# Altium schematic symbol library General.SchLib: 173 symbols (part 4 of 4)
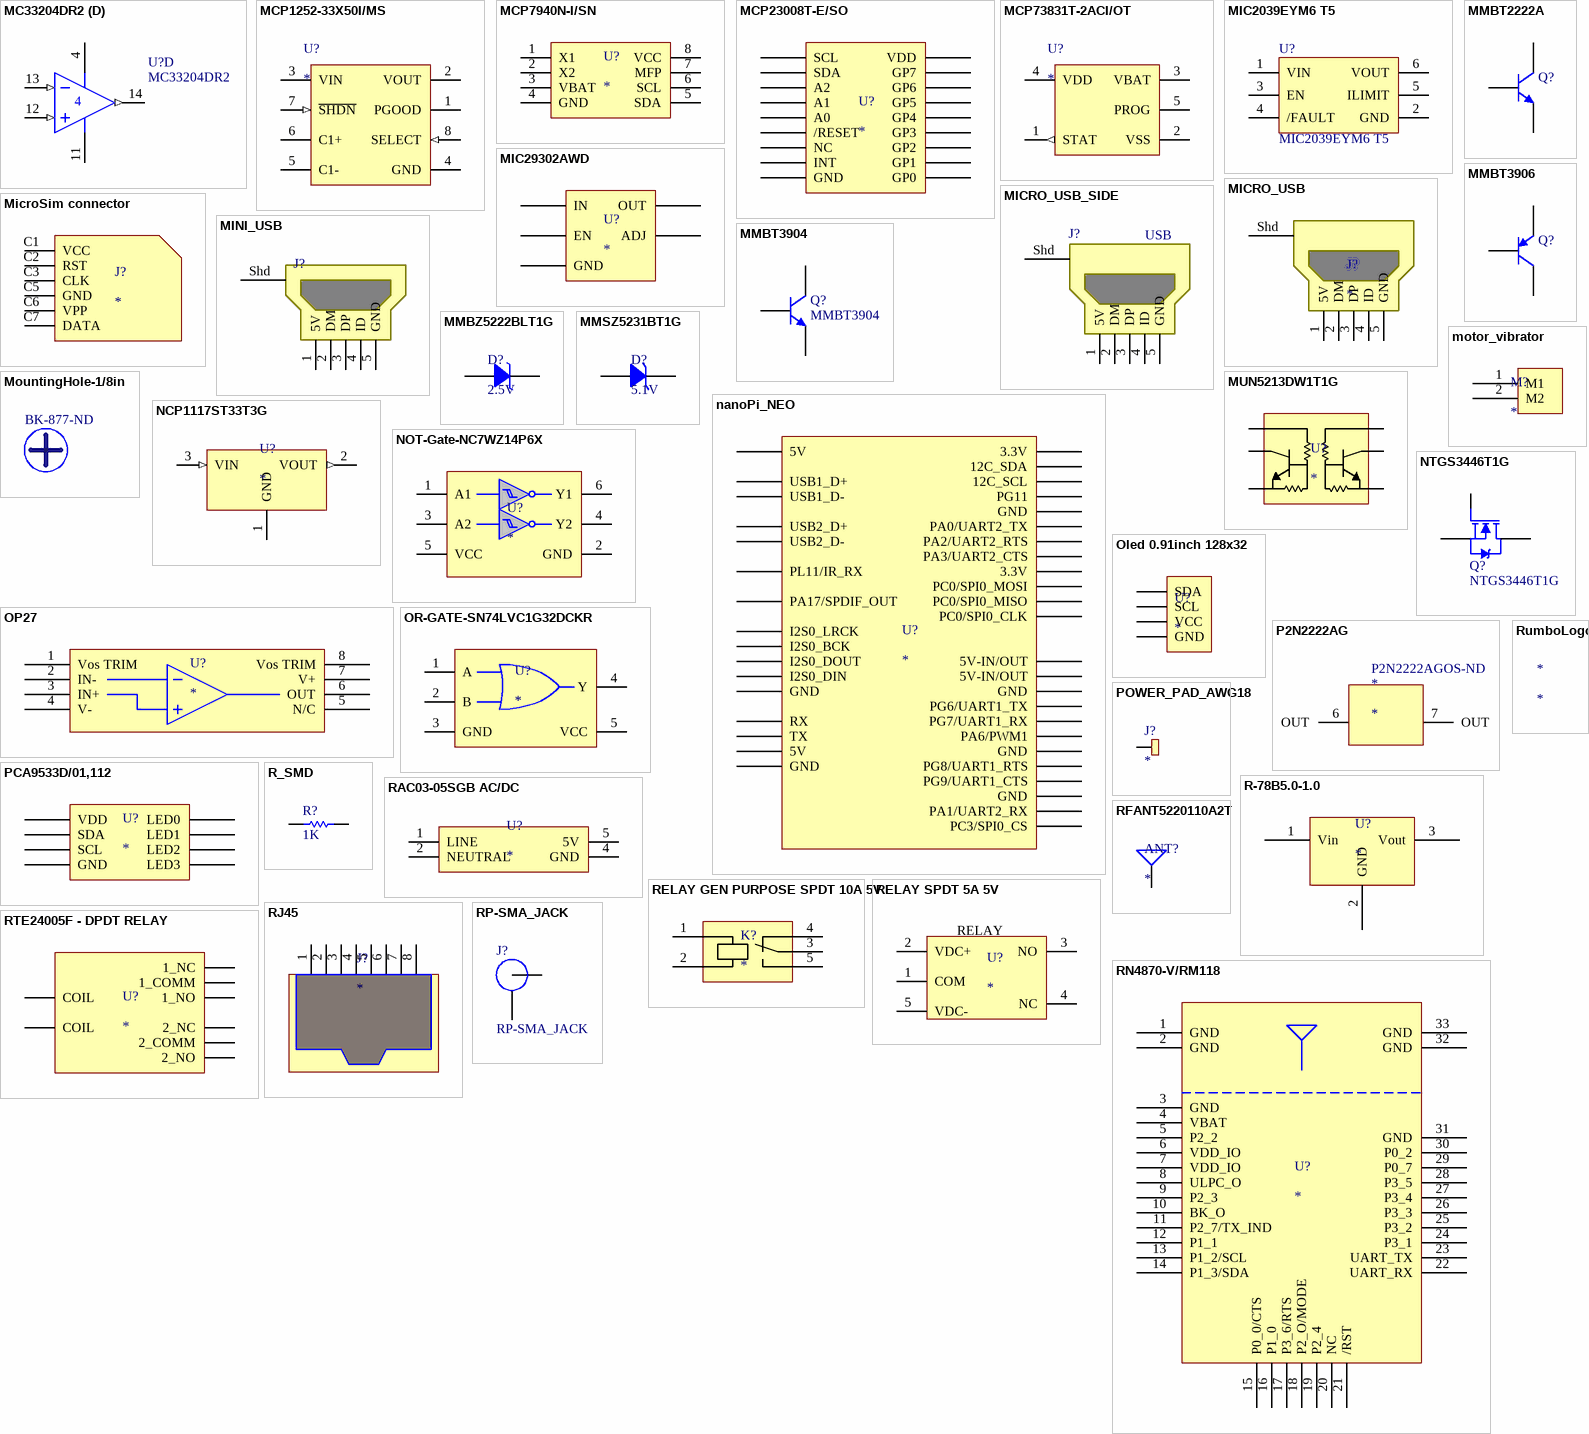
[diagram p7: symbols MC33204DR2 to RumboLogo]

## RFANT5220110A2T
designator ANT?
2.4GHZ BT/WLAN CHIP ANT; Manufacturer: Walsin Technology Corporation; Manufacturer Part Number: RFANT5220110A2T; Frequency Group: UHF (2 GHz ~ 3 GHz); Frequency Range: 2.4GHz ~ 2.5GHz; Number of Bands: 1; VSWR: 2; Gain: 2dBi; Supplier 1: Digi-Key; RoHS: RoHS Compliant; Category: RF/IF and RFID; Stock 1: 1590; Pricing 1: 1=0.71, 10=0.601, 25=0.5256, 100=0.4505, 250=0.39048, 500=0.3304, 1000=0.25531 (USD); Packaging: Cut Tape (CT); Frequency (Center/Band): 2.4GHz; Antenna Type: Chip; Return Loss: -; Power - Max: -; Features: -; Termination: Solder; Ingress Protection: -; Mounting Type: Surface Mount; Height (Max): 0.045" (1.15mm); Applications: Bluetooth, WLAN; ComponentLink1URL: http://www.passivecomponent.com/document/HF_Devices/RF_ProductCatalog_Feb08.pdf; ComponentLink1Description: http://www.passivecomponent.com/document/HF_Devices/RF_ProductCatalog_Feb08.pdf; Supplier Part Number 1: 1292-1001-1-ND
footprint BT_ANTENNA_N (Chip Capacitor, 2-Leads, Body 5.20x2.00mm, IPC Medium Density)
pins: 1 ANTENNA

## RJ45
designator J?
CONN MOD JACK R/A 8P8C SHIELDED; Manufacturer: TE Connectivity; Manufacturer Part Number: 5555153-1; Number of Positions/Contacts: 8p8c (RJ45, Ethernet); Number of Ports: 1; Ratings: Cat3; LED Color: Does Not Contain LED; Tab Direction: Down; Supplier 1: Digi-Key; RoHS: RoHS Compliant; Category: Connectors, Interconnects; Stock 1: 4543; Pricing 1: 1=1.82, 10=1.649, 50=1.481, 100=1.4136, 250=1.279, 500=1.17804, 1000=1.00974, 2500=0.94242, 5000=0.8953 (USD); Packaging: Tray; Connector Type: Jack; Number of Rows: 1; Mounting Type: Through Hole; Orientation: 90° Angle (Right); Termination: Solder; Shielding: Shielded; Features: Board Lock, Panel Stops; Ingress Protection: -; Contact Material: Phosphor Bronze; Contact Finish: Gold; Contact Finish Thickness: 50µin (1.27µm); Housing Material: Polybutylene Terephthalate (PBT), Polyester; Operating Temperature: -40°C ~ 85°C; ComponentLink1URL: http://www.te.com/commerce/DocumentDelivery/DDEController?Action=srchrtrv&DocNm=5555153&DocType=Customer+Drawing&DocLang=English; ComponentLink1Description: http://www.te.com/commerce/DocumentDelivery/DDEController?Action=srchrtrv&DocNm=5555153&DocType=Customer+Drawing&DocLang=English; Supplier Part Number 1: A31438-ND
footprint rj45
pins: 1, 2, 3, 4, 5, 6, 7, 8

## RN4870-V/RM118
designator U?
BLUETOOTH 4.2 BLE MODULE, SHIELD; Manufacturer: Microchip Technology; Manufacturer Part Number: RN4870-V/RM118; Protocol: Bluetooth v4.2; Modulation: GFSK; Frequency: 2.4GHz; Power - Output: 0dBm; Sensitivity: -90dBm; Serial Interfaces: UART; Antenna Type: Integrated, Chip; Voltage - Supply: 1.9 V ~ 3.6 V; Current - Receiving: 13mA; Supplier 1: Digi-Key; RoHS: RoHS Compliant; Category: RF/IF and RFID; Stock 1: 558; Pricing 1: 1=7.24, 25=6.5612, 100=6.353 (USD); Packaging: Tray; Part Status: Active; RF Family/Standard: Bluetooth; Data Rate: -; Memory Size: -; Current - Transmitting: 13mA; Mounting Type: Surface Mount; Operating Temperature: -20°C ~ 70°C; Package / Case: 33-SMD Module; ComponentLink1URL: http://www.microchip.com/mymicrochip/filehandler.aspx?ddocname=en586027; ComponentLink1Description: http://www.microchip.com/mymicrochip/filehandler.aspx?ddocname=en586027; Supplier Part Number 1: RN4870-V/RM118-ND
footprint RN4870
pins: 1 GND, 2 GND, 3 GND, 4 VBAT, 5 P2_2, 6 VDD_IO, 7 VDD_IO, 8 ULPC_O, 9 P2_3, 10 BK_O, 11 P2_7/TX_IND, 12 P1_1, 13 P1_2/SCL, 14 P1_3/SDA, 15 P0_0/CTS, 16 P1_0, 17 P3_6/RTS, 18 P2_O/MODE, 19 P2_4, 20 NC, 21 /RST, 22 UART_RX, 23 UART_TX, 24 P3_1, 25 P3_2, 26 P3_3, 27 P3_4, 28 P3_5, 29 P0_7, 30 P0_2, 31 GND, 32 GND, 33 GND

## RP-SMA_JACK
designator J?
CONN RP SMAN JACK R/A 50OHM PCB; Manufacturer: Linx Technologies Inc; Manufacturer Part Number: CONREVSMA002-G; Connector Style: RP-SMA; Connector Type: Jack, Male Pin; Contact Termination: Solder; Frequency - Max: 18GHz; Body Material: Brass; Body Finish: Gold; Center Contact Material: Beryllium Copper; Dielectric Material: Polytetrafluoroethylene (PTFE); Voltage Rating: 500V; Supplier 1: Digi-Key; RoHS: RoHS Compliant; Category: Connectors, Interconnects; Stock 1: 1428; Pricing 1: 1=3.26, 25=3.13, 100=2.6101, 500=2.3625 (USD); Packaging: Bulk; Shield Termination: Solder; Impedance: 50 Ohm; Mounting Type: Through Hole, Right Angle; Cable Group: -; Fastening Type: Threaded; Features: Board Guide; Housing Color: Gold; Ingress Protection: -; Center Contact Plating: Gold; Operating Temperature: -65°C ~ 165°C; ComponentLink1URL: http://www.linxtechnologies.com/resources/diagrams/conrevsma002-g.pdf; ComponentLink1Description: http://www.linxtechnologies.com/resources/diagrams/conrevsma002-g.pdf; Supplier Part Number 1: CONREVSMA002-G-ND
footprint RP-SMA
pins: 0 GND, 1 ANTENNA

## RTE24005F - DPDT RELAY
designator U?
RELAY GENERAL PURPOSE DPDT 8A 5V; Manufacturer: TE Connectivity Potter & Brumfield Relays; Manufacturer Part Number: RTE24005F; Coil Voltage: 5VDC; Contact Form: DPDT (2 Form C); Switching Voltage: 400VAC - Max; Coil Type: Non Latching; Turn On Voltage (Max): 3.5 VDC; Turn Off Voltage (Min): 0.5 VDC; Coil Power: 400 mW; Supplier 1: Digi-Key; RoHS: RoHS Compliant; Category: Relays; Stock 1: 3893; Pricing 1: 1=2.83, 10=2.666, 25=2.3984, 50=2.292, 100=2.1853, 250=2.03876 (USD); Packaging: Tube; Part Status: Active; Mounting Type: Through Hole; Features: Insulation - Class F, Sealed - Fully; Termination Style: PC Pin; Operating Temperature: -40°C ~ 85°C; Contact Material: Silver Nickel (AgNi); Relay Type: General Purpose; ComponentLink1URL: https://www.te.com/commerce/DocumentDelivery/DDEController?Action=srchrtrv&DocNm=RT2pb&DocType=DS&DocLang=English; ComponentLink1Description: https://www.te.com/commerce/DocumentDelivery/DDEController?Action=srchrtrv&DocNm=RT2pb&DocType=DS&DocLang=English; Supplier Part Number 1: PB295-ND
footprint DPDT Relay
pins: 11 1_COMM, 12 1_NC, 14 1_NO, 21 2_COMM, 22 2_NC, 24 2_NO, A1 COIL, A2 COIL

## RumboLogo
designator *
footprint rumbo_logo

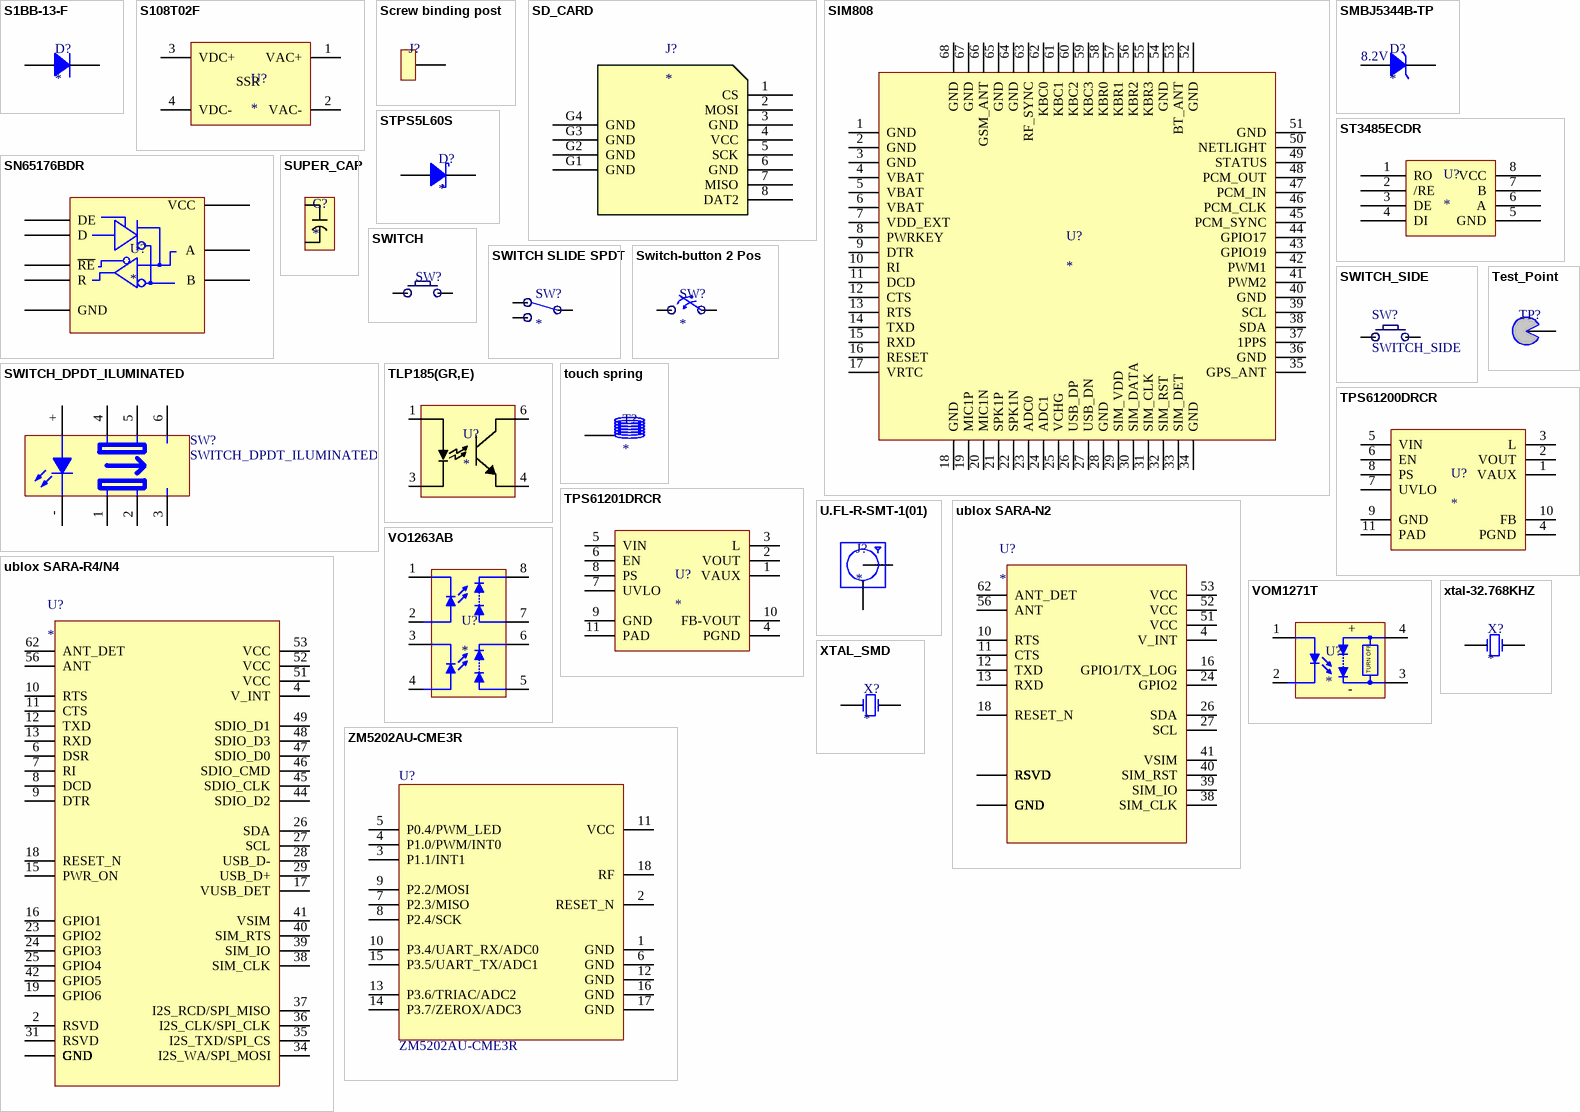
[diagram p4: symbols S1BB-13-F to ZM5202AU-CME3R]

## S1BB-13-F
designator D?
DIODE GEN PURPOSE 100V 1A SMB; Manufacturer: Diodes Incorporated; Manufacturer Part Number: S1BB-13-F; Diode Type: Standard; Voltage - Forward (Vf) (Max) @ If: 1.1V @ 1A; Speed: Standard Recovery >500ns, > 200mA (Io); Reverse Recovery Time (trr): 3µs; Current - Reverse Leakage @ Vr: 5µA @ 100V; Capacitance @ Vr, F: 10pF @ 4V, 1MHz; Supplier 1: Digi-Key; RoHS: RoHS Compliant; Category: Discrete Semiconductor Products; Stock 1: 11988; Pricing 1: 1=0.43, 10=0.306, 25=0.2416, 100=0.1836, 250=0.13004, 500=0.10404, 1000=0.078 (USD); Packaging: Cut Tape (CT); Voltage - DC Reverse (Vr) (Max): 100V; Current - Average Rectified (Io): 1A; Mounting Type: Surface Mount; Package / Case: DO-214AA, SMB; Supplier Device Package: SMB; Operating Temperature - Junction: -65°C ~ 150°C; ComponentLink1URL: http://www.diodes.com/datasheets/ds16003.pdf; ComponentLink1Description: http://www.diodes.com/datasheets/ds16003.pdf; Supplier Part Number 1: S1BB-FDICT-ND
footprint SMB_L (Molded Diode, 2-Leads, Body 4,41x3,62mm, IPC High Density)
footprint SMB_M (Molded Diode, 2-Leads, Body 4,41x3,62mm, IPC Low Density)
footprint SMB_N (Molded Diode, 2-Leads, Body 4,41x3,62mm, IPC Medium Density)
pins: 1 A, 2 K

## S108T02F
designator U?
RELAY SSR 120VAC 8A ZC 4-SIP; Manufacturer: Sharp Microelectronics; Manufacturer Part Number: S108T02F; Circuit: SPST-NO (1 Form A); Output Type: AC, Zero Cross; Voltage - Input: 1.2VDC; Voltage - Load: 80 ~ 120 V; Supplier 1: Digi-Key; RoHS: RoHS Compliant; Category: Relays; Stock 1: 919; Pricing 1: 1=5.1, 10=4.08, 25=3.876, 100=3.366, 500=2.958, 750=2.7948, 1000=2.652, 2500=2.55, 5000=2.4888 (USD); Packaging: Tube; On-State Resistance: -; Load Current: 8A; Mounting Type: Through Hole; Termination Style: PC Pin; Package / Case: 4-SIP; Supplier Device Package: 4-SIP; Relay Type: Relay; ComponentLink1URL: http://www.sharpsma.com/webfm_send/315; ComponentLink1Description: http://www.sharpsma.com/webfm_send/315; Supplier Part Number 1: 425-2396-5-ND
footprint ZC_4-ZSIP
pins: 1 VAC+, 2 VAC-, 3 VDC+, 4 VDC-
text: SSR

## Screw binding post
designator J?  (value not drawn)
TERM BINDING POST M2.5 1 PIN PCB; Manufacturer: Keystone Electronics; Manufacturer Part Number: 8730; Screw Material: Steel; Screw Finish: Zinc; Supplier 1: Digi-Key; RoHS: RoHS Compliant; Category: Connectors, Interconnects; Stock 1: 25784; Pricing 1: 1=0.36, 10=0.324, 50=0.2358, 100=0.2265, 250=0.2034, 1000=0.1625, 2500=0.14792, 5000=0.13868 (USD); Part Status: Active; Terminal Type: Binding Post; Screw Size: M2.5; Termination: Solder; Mounting Type: Through Hole; Features: -; Contact Finish: Tin; Contact Material: Brass; Material - Insulation: -; ComponentLink1URL: http://www.keyelco.com/product-pdf.cfm?p=1570; ComponentLink1Description: http://www.keyelco.com/product-pdf.cfm?p=1570; Supplier Part Number 1: 36-8730-ND
footprint screw_binding_post
pins: 1

## SD_CARD
designator J?
CONN MEMORY CARD R/A 8POS SMD; Manufacturer: Molex Inc; Manufacturer Part Number: 0472192001; Number of Positions: 8; Connector Type: Connector and Ejector; Insertion, Removal Method: Hinged Lid; Card Type: Secure Digital - microSD™; Supplier 1: Digi-Key; RoHS: RoHS Compliant; Category: Connectors, Interconnects; Stock 1: 10625; Pricing 1: 1=1.11, 10=0.973, 25=0.916, 50=0.8776, 100=0.8395, 250=0.7632 (USD); Packaging: Cut Tape (CT); Ejector Side: -; Mounting Type: Surface Mount, Right Angle; Features: -; Height Above Board: 0.075" (1.90mm); Mounting Feature: Normal, Standard - Top; Contact Finish: Gold; Contact Finish Thickness: 20µin (0.51µm); ComponentLink1URL: http://www.molex.com/pdm_docs/sd/472192001_sd.pdf; ComponentLink1Description: http://www.molex.com/pdm_docs/sd/472192001_sd.pdf; Supplier Part Number 1: WM6698CT-ND
footprint MICRO_SD-SOCKET
pins: 1 CS, 2 MOSI, 3 GND, 4 VCC, 5 SCK, 6 GND, 7 MISO, 8 DAT2, G1 GND, G2 GND, G3 GND, G4 GND

## SIM808
designator U?
Module: GPS/GSM; GPRS; 2G; 1800MHz,900MHz; GPIO, Serial, USB; SMD; Manufacturer: SIMCOM; Manufacturer Part Number: SIM808; Unit: pcs; SuppliedAmount: 0; MinAmount: 1; Supply voltage: 3.4...4.4V DC; Module output power: 1 W (class 1 @ 1800/1900MHz); Communications modules features: GPRS mobile station class B; GPS features: hot start <1s; Supplier 1: TME; Category: GSM/GPS/GPRS/HSPA/EDGE/LTE Modules; Stock 1: 180; Pricing 1: 1=23.5, 3=22, 10=19.6, 50=17 (USD); Weight: 4.878; Multiples: 1; Price Type: NET; Communications module type: GPS/GSM; Transmission: GPRS; Standard: 2G; Frequency: 1800MHz; Interface: GPIO; Operating temperature: -40...85°C; Dimensions: 24 x 24 x 2.6mm; Mounting: SMD; Case: 68-pad SMT; ComponentLink1URL: http://www.tme.eu/en/details/sim808/gsmgpsgprshspaedgelte-modules/simcom/; ComponentLink1Description: http://www.tme.eu/en/details/sim808/gsmgpsgprshspaedgelte-modules/simcom/; Supplier Part Number 1: SIM808
footprint SIM808
pins: 1 GND, 2 GND, 3 GND, 4 VBAT, 5 VBAT, 6 VBAT, 7 VDD_EXT, 8 PWRKEY, 9 DTR, 10 RI, 11 DCD, 12 CTS, 13 RTS, 14 TXD, 15 RXD, 16 RESET, 17 VRTC, 18 GND, 19 MIC1P, 20 MIC1N, 21 SPK1P, 22 SPK1N, 23 ADC0, 24 ADC1, 25 VCHG, 26 USB_DP, 27 USB_DN, 28 GND, 29 SIM_VDD, 30 SIM_DATA, 31 SIM_CLK, 32 SIM_RST, 33 SIM_DET, 34 GND, 35 GPS_ANT, 36 GND, 37 1PPS, 38 SDA, 39 SCL, 40 GND, 41 PWM2, 42 PWM1, 43 GPIO19, 44 GPIO17, 45 PCM_SYNC, 46 PCM_CLK, 47 PCM_IN, 48 PCM_OUT, 49 STATUS, 50 NETLIGHT, 51 GND, 52 GND, 53 BT_ANT, 54 GND, 55 KBR3, 56 KBR2, 57 KBR1, 58 KBR0, 59 KBC3, 60 KBC2, 61 KBC1, 62 KBC0, 63 RF_SYNC, 64 GND, 65 GND, 66 GSM_ANT, 67 GND, 68 GND

## SMBJ5344B-TP
designator D?  Voltage - Zener (Nom) (Vz): 8.2V
DIODE ZENER 8.2V 5W DO214AA; Manufacturer: Micro Commercial Co; Manufacturer Part Number: SMBJ5344B-TP; Tolerance: ±5%; Impedance (Max) (Zzt): 1.5 Ohm; Current - Reverse Leakage @ Vr: 10µA @ 6.2V; Voltage - Forward (Vf) (Max) @ If: 1.2V @ 1A; Supplier 1: Digi-Key; RoHS: RoHS Compliant; Category: Discrete Semiconductor Products; Stock 1: 15936; Pricing 1: 1=0.65, 10=0.57, 25=0.504, 100=0.4392, 250=0.38236, 500=0.32548, 1000=0.2607 (USD); Packaging: Cut Tape (CT); Power - Max: 5W; Operating Temperature: -55°C ~ 150°C; Mounting Type: Surface Mount; Package / Case: DO-214AA, SMB; Supplier Device Package: DO-214AA (SMB); ComponentLink1URL: http://www.mccsemi.com/up_pdf/SMBJ5338B-SMBJ5388B(SMB).pdf; ComponentLink1Description: http://www.mccsemi.com/up_pdf/SMBJ5338B-SMBJ5388B(SMB).pdf; Supplier Part Number 1: SMBJ5344B-TPMSCT-ND
footprint SMB_L (Molded Diode, 2-Leads, Body 4,41x3,62mm, IPC High Density)
footprint SMB_M (Molded Diode, 2-Leads, Body 4,41x3,62mm, IPC Low Density)
footprint SMB_N (Molded Diode, 2-Leads, Body 4,41x3,62mm, IPC Medium Density)
pins: 1 A, 2 K

## SN65176BDR
designator U?
IC DIFF BUS TXRX 8-SOIC; Manufacturer: Texas Instruments; Manufacturer Part Number: SN65176BDR; Protocol: RS422, RS485; Number of Drivers/Receivers: 1/1; Duplex: Half; Voltage - Supply: 4.75 V ~ 5.25 V; Supplier 1: Digi-Key; RoHS: RoHS Compliant; Category: Integrated Circuits (ICs); Stock 1: 20336; Pricing 1: 1=0.77, 10=0.68, 100=0.5212, 500=0.412, 1000=0.3296 (USD); Packaging: Cut Tape (CT); Part Status: Active; Type: Transceiver; Data Rate: -; Operating Temperature: -40°C ~ 105°C; Mounting Type: Surface Mount; Package / Case: 8-SOIC (0.154", 3.90mm Width); Supplier Device Package: 8-SOIC; ComponentLink1URL: http://www.ti.com/lit/ds/symlink/sn65176b.pdf; ComponentLink1Description: http://www.ti.com/lit/ds/symlink/sn65176b.pdf; Supplier Part Number 1: 296-14636-1-ND
footprint SOIC8_L (SOIC, 8-Leads, Body 4.90x3.90mm, Pitch 1.27mm, IPC High Density)
footprint SOIC8_M (SOIC, 8-Leads, Body 4.90x3.90mm, Pitch 1.27mm, IPC Low Density)
footprint SOIC8_N (SOIC, 8-Leads, Body 4.90x3.90mm, Pitch 1.27mm, IPC Medium Density)
pins: 1 R, 2 ~{RE}, 3 DE, 4 D, 5 GND, 6 A, 7 B, 8 VCC

## ST3485ECDR
designator U?
TXRX RS485/422 3.3V ESD 8-SOIC; Manufacturer: STMicroelectronics; Manufacturer Part Number: ST3485ECDR; Protocol: RS422, RS485; Number of Drivers/Receivers: 1/1; Duplex: Half; Receiver Hysteresis: 70mV; Data Rate: 15Mbps; Voltage - Supply: 3 V ~ 3.6 V; Supplier 1: Digi-Key; RoHS: RoHS Compliant; Category: Integrated Circuits (ICs); Stock 1: 2539; Pricing 1: 1=2.44, 10=2.206, 25=1.9764, 100=1.7772, 250=1.578, 500=1.37884, 1000=1.11899 (USD); Packaging: Cut Tape (CT); Type: Transceiver; Operating Temperature: 0°C ~ 70°C; Mounting Type: Surface Mount; Package / Case: 8-SOIC (0.154", 3.90mm Width); Supplier Device Package: 8-SO; ComponentLink1URL: http://www.st.com/web/en/resource/technical/document/datasheet/CD00003137.pdf; ComponentLink1Description: http://www.st.com/web/en/resource/technical/document/datasheet/CD00003137.pdf; Supplier Part Number 1: 497-6540-1-ND
footprint SOIC8WA_N (SOP, 8-Leads, Body 5.3x5.3mm, Pitch 1.27mm, IPC Medium Density)
footprint SOIC8WA_M (SOP, 8-Leads, Body 5.3x5.3mm, Pitch 1.27mm, IPC Low Density)
footprint SOIC8WA_L (SOP, 8-Leads, Body 5.3x5.3mm, Pitch 1.27mm, IPC High Density)
pins: 1 RO, 2 /RE, 3 DE, 4 DI, 5 GND, 6 A, 7 B, 8 VCC

## STPS5L60S
designator D?
DIODE SCHOTTKY 60V 5A SMC; Manufacturer: STMicroelectronics; Manufacturer Part Number: STPS5L60S; Voltage - Forward (Vf) (Max) @ If: 520mV @ 5A; Speed: Fast Recovery =< 500ns, > 200mA (Io); Current - Reverse Leakage @ Vr: 220µA @ 60V; Supplier 1: Digi-Key; RoHS: RoHS Compliant; Category: Discrete Semiconductor Products; Stock 1: 16036; Pricing 1: 1=0.93, 10=0.814, 25=0.7192, 100=0.6267, 250=0.54552, 500=0.46436, 1000=0.36465 (USD); Packaging: Cut Tape (CT); Diode Type: Schottky; Voltage - DC Reverse (Vr) (Max): 60V; Current - Average Rectified (Io): 5A; Reverse Recovery Time (trr): -; Capacitance @ Vr, F: -; Mounting Type: Surface Mount; Package / Case: DO-214AB, SMC; Supplier Device Package: SMC; Operating Temperature - Junction: 150°C (Max); ComponentLink1URL: http://www.st.com/web/en/resource/technical/document/datasheet/CD00002924.pdf; ComponentLink1Description: http://www.st.com/web/en/resource/technical/document/datasheet/CD00002924.pdf; Supplier Part Number 1: 497-8487-1-ND
footprint SMC_L (Molded Diode, 2-Leads, Body 7,95x5,88mm, IPC High Density)
footprint SMC_M (Molded Diode, 2-Leads, Body 7,95x5,88mm, IPC Low Density)
footprint SMC_N (Molded Diode, 2-Leads, Body 7,95x5,88mm, IPC Medium Density)
pins: 1 A, 2 K

## SUPER_CAP
designator C?
CAP SUPER 0.06F 3.3V COIN SMD; Manufacturer: Taiyo Yuden; Manufacturer Part Number: PAS414HR-VA5R; Capacitance: 60mF; ESR (Equivalent Series Resistance): 80 Ohm; Supplier 1: Digi-Key; RoHS: RoHS Compliant; Category: Capacitors; Stock 1: 22965; Pricing 1: 1=1.18, 10=0.987, 25=0.8504, 50=0.798, 100=0.63, 250=0.525, 500=0.4725, 1000=0.4305 (USD); Packaging: Cut Tape (CT); Voltage - Rated: 3.3V; Tolerance: -; Lifetime @ Temp.: -; Mounting Type: Surface Mount; Package / Case: Coin, Wide Terminals - Same Sides; Lead Spacing: -; Size / Dimension: 0.189" Dia (4.80mm); Height - Seated (Max): 0.061" (1.55mm); Operating Temperature: -20°C ~ 60°C; ComponentLink1URL: http://www.yuden.co.jp/productdata/catalog/en/capacitor01_e.pdf; ComponentLink1Description: http://www.yuden.co.jp/productdata/catalog/en/capacitor01_e.pdf; Supplier Part Number 1: 587-2158-1-ND
footprint 414-VA5R (super cap footprint)
pins: 1 *, 2 *

## SWITCH
designator SW?
SWITCH TACTILE SPST-NO 0.05A 12V; Manufacturer: TE Connectivity; Manufacturer Part Number: FSM4JSMATR; Switch Function: Off-Mom; Contact Rating @ Voltage: 0.05A @ 12VDC; Actuator Type: Standard; Actuator Height off PCB, from Pins: 5.00mm; Actuator Orientation: Top Actuated; Outline: 6.00mm x 6.00mm; Illumination: Non-Illuminated; Operating Force: 160gf; Actuator Material: Polyphenylene Sulfide (PPS); Switch Travel: 0.25mm; Mechanical Life: 100,000 Cycles; Supplier 1: Digi-Key; RoHS: RoHS Compliant; Category: Switches; Stock 1: 33712; Pricing 1: 1=0.23, 10=0.223, 25=0.2136, 50=0.2038, 100=0.1843, 250=0.1698, 500=0.15524 (USD); Packaging: Cut Tape (CT); Circuit: SPST-NO; Mounting Type: Surface Mount; Termination Style: Gull Wing; Illumination Voltage (Nominal): -; Illumination Type, Color: -; Ingress Protection: -; Features: -; Operating Temperature: -35°C ~ 85°C; ComponentLink1URL: http://www.te.com/commerce/DocumentDelivery/DDEController?Action=srchrtrv&DocNm=2-1437565-7&DocType=Customer+Drawing&DocLang=English; ComponentLink1Description: http://www.te.com/commerce/DocumentDelivery/DDEController?Action=srchrtrv&DocNm=2-1437565-7&DocType=Customer+Drawing&DocLang=English; Supplier Part Number 1: 450-1759-1-ND
footprint swich_foot
pins: 1 *, 2 *

## SWITCH SLIDE SPDT
designator SW?
SWITCH SLIDE SPDT 200MA 30V; Manufacturer: TE Connectivity ALCOSWITCH Switches; Manufacturer Part Number: 1825232-1; Contact Timing: Non-Shorting (BBM); Switch Function: On-On; Current Rating: 200mA (DC); Actuator Type: Standard; Actuator Length: 3.00mm; Actuator Material: Polyoxymethylene (Acetal) (POM); Switch Travel: 2.00mm; Mechanical Life: 10,000 Cycles; Operating Force: 200gf; Supplier 1: Digi-Key; RoHS: RoHS Compliant; Category: Switches; Stock 1: 11496; Pricing 1: 1=0.28, 10=0.273, 25=0.2676, 50=0.239, 100=0.2276, 250=0.22192, 500=0.18778, 1000=0.18208, 5000=0.15932 (USD); Packaging: Bulk; Part Status: Active; Circuit: SPDT; Voltage Rating - AC: -; Voltage Rating - DC: 30V; Contact Material: Copper Alloy; Contact Finish: Silver; Mounting Type: Through Hole, Right Angle; Termination Style: PC Pin; Features: -; Operating Temperature: -20°C ~ 70°C; Electrical Life: 10,000 Cycles; ComponentLink1URL: http://www.te.com/commerce/DocumentDelivery/DDEController?Action=srchrtrv&DocNm=1825232&DocType=Customer+Drawing&DocLang=English; ComponentLink1Description: http://www.te.com/commerce/DocumentDelivery/DDEController?Action=srchrtrv&DocNm=1825232&DocType=Customer+Drawing&DocLang=English; Supplier Part Number 1: A107673-ND
footprint SWITCH_RIGHT_ANGLE_TH
pins: 1 A, 2 COM, 3 B

## Switch-button 2 Pos
designator SW?
SWITCH PUSHBUTTON SPST 1A 30V; Manufacturer: CW Industries; Manufacturer Part Number: GPTS203211B; Switch Function: Off-On; Current Rating: 1A (DC); Actuator Type: Round, Button; Color - Actuator/Cap: Black; Mechanical Life: 20,000 Cycles; Supplier 1: Digi-Key; RoHS: RoHS Compliant; Category: Switches; Stock 1: 24816; Pricing 1: 1=0.74, 10=0.693, 25=0.66, 50=0.627, 100=0.6105, 250=0.594, 500=0.561, 1000=0.528, 2500=0.4785 (USD); Packaging: Bulk; Part Status: Active; Type: Standard; Circuit: SPST; Voltage Rating - AC: -; Voltage Rating - DC: 30V; Illumination Type, Color: -; Illumination Voltage (Nominal): -; Mounting Type: Through Hole; Termination Style: PC Pin; Ingress Protection: -; Features: -; Panel Cutout Dimensions: -; Operating Temperature: -; Electrical Life: 20,000 Cycles; ComponentLink1URL: http://switches-connectors-custom.cwind.com/Asset/GPTS203211BR2.pdf; ComponentLink1Description: http://switches-connectors-custom.cwind.com/Asset/GPTS203211BR2.pdf; Supplier Part Number 1: CW181-ND
pins: 1 *, 2 *

## SWITCH_DPDT_ILUMINATED
designator SW?
SWITCH PUSH DPDT 300MA 30V; Manufacturer: E-Switch; Manufacturer Part Number: WBL2UEEGBQR05CLR; Switch Function: On-On; Current Rating: 300mA (DC); Actuator Type: Round, Button; Color - Actuator/Cap: Clear; Illumination Type, Color: LED, Green/Blue; Illumination Voltage (Nominal): 1.7, 3.5 VDC; Mechanical Life: 10,000 Cycles; Supplier 1: Digi-Key; RoHS: RoHS Compliant; Category: Switches; Stock 1: 415; Pricing 1: 1=4.35, 10=4.064, 50=3.6766, 100=3.5798, 250=3.483, 500=3.2895, 1000=3.096, 2500=2.80575, 5000=2.61225 (USD); Packaging: Bulk; Type: Standard, Illuminated; Circuit: DPDT; Voltage Rating - AC: -; Voltage Rating - DC: 30V; Mounting Type: Through Hole, Right Angle; Termination Style: PC Pin; Ingress Protection: -; Features: -; Panel Cutout Dimensions: -; Operating Temperature: -20°C ~ 70°C; Electrical Life: -; ComponentLink1URL: https://www.e-switch.com/system/asset/product_line/data_sheet/68/WBL.pdf; ComponentLink1Description: https://www.e-switch.com/system/asset/product_line/data_sheet/68/WBL.pdf; Supplier Part Number 1: EG5012-ND
footprint SWITCH_ONOFF_illuminated
pins: 1, 2, 3, 4, 5, 6, +, -

## SWITCH_SIDE
designator SW?
SWITCH TACTILE SPST-NO 0.05A 24V; Manufacturer: TE Connectivity Alcoswitch Switches; Manufacturer Part Number: 1825027-5; Switch Function: Off-Mom; Contact Rating @ Voltage: 0.05A @ 24VDC; Actuator Type: Standard; Actuator Height off PCB, from Pins: 3.86mm; Actuator Orientation: Side Actuated; Outline: 7.10mm x 7.00mm; Illumination: Non-Illuminated; Operating Force: 160gf; Actuator Material: Polybutylene Terephthalate (PBT); Switch Travel: 0.25mm; Mechanical Life: 100,000 Cycles; Supplier 1: Digi-Key; RoHS: RoHS Compliant; Category: Switches; Stock 1: 58431; Pricing 1: 1=0.16, 25=0.1512, 50=0.146, 100=0.138, 200=0.13, 500=0.124, 1000=0.095, 2000=0.078 (USD); Packaging: Bulk; Circuit: SPST-NO; Mounting Type: Through Hole, Right Angle; Termination Style: PC Pin; Illumination Voltage (Nominal): -; Illumination Type, Color: -; Ingress Protection: -; Features: -; Operating Temperature: -35°C ~ 85°C; ComponentLink1URL: http://www.te.com/commerce/DocumentDelivery/DDEController?Action=srchrtrv&DocNm=1825027&DocType=Customer+Drawing&DocLang=English; ComponentLink1Description: http://www.te.com/commerce/DocumentDelivery/DDEController?Action=srchrtrv&DocNm=1825027&DocType=Customer+Drawing&DocLang=English; Supplier Part Number 1: 450-1662-ND
footprint SWITCH_SIDE_SHORT
pins: 1 *, 2 *

## Test_Point
designator TP?  (value not drawn)
footprint TestPoint
pins: 0 TP

## TLP185(GR,E)
designator U?
OPTOISO 3.75KV TRANS 6-SO 4 LEAD; Manufacturer: Toshiba Semiconductor and Storage; Manufacturer Part Number: TLP185(GR,E); Number of Channels: 1; Voltage - Isolation: 3750Vrms; Current Transfer Ratio (Min): 100% @ 5mA; Current Transfer Ratio (Max): 300% @ 5mA; Turn On / Turn Off Time (Typ): 9µs, 9µs; Rise / Fall Time (Typ): 5µs, 9µs; Input Type: DC; Output Type: Transistor; Voltage - Output (Max): 80V; Current - Output / Channel: 50mA; Voltage - Forward (Vf) (Typ): 1.25V; Vce Saturation (Max): 300mV; Supplier 1: Digi-Key; RoHS: RoHS Compliant; Category: Isolators; Stock 1: 5555; Pricing 1: 1=0.53, 25=0.3412, 100=0.294, 250=0.26252, 500=0.22576, 1000=0.1743, 2500=0.1575, 5000=0.147 (USD); Packaging: Tube; Current - DC Forward (If) (Max): 50mA; Operating Temperature: -55°C ~ 110°C; Mounting Type: Surface Mount; Package / Case: 6-SMD (4 Leads), Gull Wing; Supplier Device Package: 6-SO, 4 Lead; ComponentLink1URL: http://www.semicon.toshiba.co.jp/docs/datasheet/en/Opto/TLP185_en_datasheet_120214.pdf; ComponentLink1Description: http://www.semicon.toshiba.co.jp/docs/datasheet/en/Opto/TLP185_en_datasheet_120214.pdf; Supplier Part Number 1: TLP185(GRE)-ND
footprint SOIC6 (4 leads) (SOIC, SMD 6, 4-Leads, Body 3,75x4,60mm, Pitch 1,27mm, IPC Medium Density)
pins: 1 control+, 3 control-, 4 DC-, 6 DC+

## touch spring
designator T?
footprint touch spring
pins: 1 touch

## TPS61200DRCR
designator U?
IC REG BOOST ADJ 1.2A SYNC 10SON; Manufacturer: Texas Instruments; Manufacturer Part Number: TPS61200DRCR; Function: Step-Up; Output Configuration: Positive; Output Type: Adjustable; Number of Outputs: 1; Voltage - Input (Min): 0.3V; Voltage - Input (Max): 5.5V; Voltage - Output (Min/Fixed): 1.8V; Current - Output: 1.2A (Switch); Frequency - Switching: 1.25MHz ~ 1.65MHz; Synchronous Rectifier: Yes; Supplier 1: Digi-Key; RoHS: RoHS Compliant; Category: Integrated Circuits (ICs); Stock 1: 6216; Pricing 1: 1=2.74, 10=2.457, 100=1.971, 500=1.62, 1000=1.125 (USD); Packaging: Cut Tape (CT); Topology: Boost; Voltage - Output (Max): 5.5V; Operating Temperature: -40°C ~ 85°C (TA); Mounting Type: Surface Mount; Package / Case: 10-VFDFN Exposed Pad; Supplier Device Package: 10-VSON (3x3); ComponentLink1URL: http://www.ti.com/lit/ds/symlink/tps61202.pdf; ComponentLink1Description: http://www.ti.com/lit/ds/symlink/tps61202.pdf; Supplier Part Number 1: 296-27017-1-ND
footprint VSON10_M (SON, 10-Leads, Body 3.00x3.00mm, Pitch 0.50mm, Thermal Pad 2.40x1.49mm, IPC Low Density)
pins: 1 VAUX, 2 VOUT, 3 L, 4 PGND, 5 VIN, 6 EN, 7 UVLO, 8 PS, 9 GND, 10 FB, 11 PAD

## TPS61201DRCR
designator U?
IC REG BST 3.3V 1.2A SYNC 10SON; Manufacturer: Texas Instruments; Manufacturer Part Number: TPS61201DRCR; Function: Step-Up; Output Configuration: Positive; Topology: Boost; Output Type: Fixed; Number of Outputs: 1; Voltage - Input (Min): 0.3V; Voltage - Input (Max): 5.5V; Current - Output: 1.2A (Switch); Frequency - Switching: 1.25MHz ~ 1.65MHz; Synchronous Rectifier: Yes; Supplier 1: Digi-Key; RoHS: RoHS Compliant; Category: Integrated Circuits (ICs); Stock 1: 0; Pricing 1: 1=2.74, 10=2.457, 100=1.971, 500=1.62, 1000=1.125 (USD); Packaging: Cut Tape (CT); Voltage - Output (Min/Fixed): 3.3V; Voltage - Output (Max): -; Operating Temperature: -40°C ~ 85°C (TA); Mounting Type: Surface Mount; Package / Case: 10-VFDFN Exposed Pad; Supplier Device Package: 10-VSON (3x3); ComponentLink1URL: http://www.ti.com/lit/ds/symlink/tps61202.pdf; ComponentLink1Description: http://www.ti.com/lit/ds/symlink/tps61202.pdf; Supplier Part Number 1: 296-44338-1-ND
footprint VSON10_M (SON, 10-Leads, Body 3.00x3.00mm, Pitch 0.50mm, Thermal Pad 2.40x1.49mm, IPC Low Density)
pins: 1 VAUX, 2 VOUT, 3 L, 4 PGND, 5 VIN, 6 EN, 7 UVLO, 8 PS, 9 GND, 10 FB-VOUT, 11 PAD

## U.FL-R-SMT-1(01)
designator J?
CONN UMC JACK STR 50 OHM SMD; Manufacturer: Hirose Electric Co Ltd; Manufacturer Part Number: U.FL-R-SMT-1(01); Connector Style: U.FL, Ultra Miniature Coaxial; Connector Type: Receptacle, Male Pin; Contact Termination: Solder; Impedance: 50 Ohm; Frequency - Max: 6GHz; Body Material: Phosphor Bronze; Body Finish: Silver; Center Contact Material: Brass; Center Contact Plating: Gold; Dielectric Material: Liquid Crystal Polymer (LCP); Supplier 1: Digi-Key; RoHS: RoHS Compliant; Category: Connectors, Interconnects; Stock 1: 8912; Pricing 1: 1=1.28, 10=1.122, 25=1.056, 50=1.012, 100=0.968, 250=0.88, 500=0.792, 1000=0.704, 2500=0.638 (USD); Packaging: Bulk; Shield Termination: Solder; Mounting Type: Surface Mount; Cable Group: -; Fastening Type: Snap-On; Features: -; Housing Color: Beige; Ingress Protection: -; Voltage Rating: -; Operating Temperature: -40°C ~ 90°C; ComponentLink1URL: http://media.digikey.com/pdf/Data%20Sheets/Hirose%20PDFs/UFL%20Series.pdf; ComponentLink1Description: http://media.digikey.com/pdf/Data%20Sheets/Hirose%20PDFs/UFL%20Series.pdf; Supplier Part Number 1: H122041-ND
footprint UFL-Hirose
pins: 0 GND, 1 ANTENNA

## ublox SARA-N2
designator U?
RF TXRX CELL 4G LTE CAT NB-IOT; Manufacturer: U-Blox America Inc.; Manufacturer Part Number: SARA-N280; RF Family/Standard: Cellular; Protocol: 4G LTE CAT NB-IoT (APAC/S. AMERICA); Frequency: 703MHz ~ 960MHz; Power - Output: 23dBm; Sensitivity: -135dBm; Serial Interfaces: I²C, SPI, UART, USB; Antenna Type: Not Included, Castellation; Voltage - Supply: 3.6V; Current - Receiving: 46mA; Current - Transmitting: 74mA ~ 220mA; Supplier 1: Digi-Key; RoHS: RoHS Compliant; Category: RF/IF and RFID; Stock 1: 244; Pricing 1: 1=22.15, 10=20.45, 50=18.7456, 100=17.3255 (USD); Packaging: Cut Tape (CT); Part Status: Active; Modulation: -; Data Rate: -; Utilized IC / Part: -; Memory Size: -; Mounting Type: Surface Mount; Operating Temperature: -40°C ~ 85°C; Package / Case: 96-SMD Module; ComponentLink1URL: https://www.u-blox.com/sites/default/files/SARA-N2_DataSheet_(UBX-15025564).pdf; ComponentLink1Description: https://www.u-blox.com/sites/default/files/SARA-N2_DataSheet_(UBX-15025564).pdf; Supplier Part Number 1: 672-1078-1-ND
footprint ublox-n2/r4/n4
pins: 1 GND, 2 RSVD, 3 GND, 4 V_INT, 5 GND, 6 RSVD, 7 RSVD, 8 RSVD, 9 RSVD, 10 RTS, 11 CTS, 12 TXD, 13 RXD, 14 GND, 15 RSVD, 16 GPIO1/TX_LOG, 17 RSVD, 18 RESET_N, 19 RSVD, 20 GND, 21 GND, 22 GND, 23 RSVD, 24 GPIO2, 25 RSVD, 26 SDA, 27 SCL, 28 RSVD, 29 RSVD, 30 GND, 31 RSVD, 32 GND, 33 RSVD, 34 RSVD, 35 RSVD, 36 RSVD, 37 RSVD, 38 SIM_CLK, 39 SIM_IO, 40 SIM_RST, 41 VSIM, 42 RSVD, 43 GND, 44 RSVD, 45 RSVD, 46 RSVD, 47 RSVD, 48 RSVD, 49 RSVD, 50 GND, 51 VCC, 52 VCC, 53 VCC, 54 GND, 55 GND, 56 ANT, 57 GND, 58 GND, 59 GND, 60 GND, 61 GND, 62 ANT_DET, 63 GND, 64 GND, 65 GND, 66 GND, 67 GND, 68 GND, 69 GND, 70 GND, 71 GND, 72 GND, 73 GND, 74 GND, 75 GND, 76 GND, 77 GND, 78 GND, 79 GND, 80 GND, 81 GND, 82 GND, 83 GND, 84 GND, 85 GND, 86 GND, 87 GND, 88 GND, 89 GND, 90 GND, 91 GND, 92 GND, 93 GND, 94 GND, 95 GND, 96 GND

## ublox SARA-R4/N4
designator U?
RF TXRX CELL 4G LTE CATM1/NB-IOT; Manufacturer: U-Blox America Inc.; Manufacturer Part Number: SARA-R410M-01B; RF Family/Standard: Cellular; Frequency: 700MHz, 850MHz, 1.7GHz, 1.9GHz; Sensitivity: -107.5dBm; Serial Interfaces: I²C, SPI, UART, USB; Antenna Type: Not Included, Castellation; Voltage - Supply: 3.8V; Current - Transmitting: 100mA ~ 490mA; Supplier 1: Digi-Key; RoHS: RoHS Compliant; Category: RF/IF and RFID; Stock 1: 350; Pricing 1: 1=32.47, 10=29.975, 50=27.4774, 100=25.3958 (USD); Packaging: Cut Tape (CT); Part Status: Active; Protocol: 4G LTE CAT M1/NB-IoT; Modulation: -; Data Rate: -; Power - Output: -; Utilized IC / Part: -; Memory Size: -; Mounting Type: Surface Mount; Operating Temperature: -40°C ~ 85°C; Package / Case: 96-SMD Module; ComponentLink1URL: https://www.u-blox.com/sites/default/files/SARA-R4_DataSheet_(UBX-16024152).pdf; ComponentLink1Description: https://www.u-blox.com/sites/default/files/SARA-R4_DataSheet_(UBX-16024152).pdf; Supplier Part Number 1: 672-1076-1-ND
footprint ublox-n2/r4/n4
pins: 1 GND, 2 RSVD, 3 GND, 4 V_INT, 5 GND, 6 DSR, 7 RI, 8 DCD, 9 DTR, 10 RTS, 11 CTS, 12 TXD, 13 RXD, 14 GND, 15 PWR_ON, 16 GPIO1, 17 VUSB_DET, 18 RESET_N, 19 GPIO6, 20 GND, 21 GND, 22 GND, 23 GPIO2, 24 GPIO3, 25 GPIO4, 26 SDA, 27 SCL, 28 USB_D-, 29 USB_D+, 30 GND, 31 RSVD, 32 GND, 33 GND, 34 I2S_WA/SPI_MOSI, 35 I2S_TXD/SPI_CS, 36 I2S_CLK/SPI_CLK, 37 I2S_RCD/SPI_MISO, 38 SIM_CLK, 39 SIM_IO, 40 SIM_RTS, 41 VSIM, 42 GPIO5, 43 GND, 44 SDIO_D2, 45 SDIO_CLK, 46 SDIO_CMD, 47 SDIO_D0, 48 SDIO_D3, 49 SDIO_D1, 50 GND, 51 VCC, 52 VCC, 53 VCC, 54 GND, 55 GND, 56 ANT, 57 GND, 58 GND, 59 GND, 60 GND, 61 GND, 62 ANT_DET, 63 GND, 64 GND, 66 GND, 67 GND, 68 GND, 69 GND, 70 GND, 71 GND, 72 GND, 73 GND, 74 GND, 75 GND, 76 GND, 77 GND, 78 GND, 79 GND, 80 GND, 81 GND, 82 GND, 83 GND, 84 GND, 85 GND, 86 GND, 87 GND, 88 GND, 89 GND, 90 GND, 91 GND, 92 GND, 93 GND, 94 GND, 95 GND, 96 GND

## VO1263AB
designator U?
OPTOISO 5.3KV 2CH PHVOLT 8DIP; Manufacturer: Vishay Semiconductor Opto Division; Manufacturer Part Number: VO1263AB; Voltage - Isolation: 5300Vrms; Turn On / Turn Off Time (Typ): 16µs, 472µs; Input Type: DC; Output Type: Photovoltaic; Voltage - Output (Max): 16.5V; Current - Output / Channel: 3µA; Voltage - Forward (Vf) (Typ): 1.3V; Supplier 1: Digi-Key; RoHS: RoHS Compliant; Category: Isolators; Stock 1: 728; Pricing 1: 1=4.95, 10=4.125, 25=3.4652, 100=2.97, 250=2.64, 500=2.3925, 1000=2.1945, 2500=2.10375 (USD); Packaging: Tube; Part Status: Active; Current Transfer Ratio (Min): -; Current Transfer Ratio (Max): -; Rise / Fall Time (Typ): -; Vce Saturation (Max): -; Operating Temperature: -40°C ~ 100°C; Mounting Type: Through Hole; Package / Case: 8-DIP (0.300", 7.62mm); Supplier Device Package: 8-DIP; ComponentLink1URL: http://www.vishay.com/docs/84639/vo1263aa.pdf; ComponentLink1Description: http://www.vishay.com/docs/84639/vo1263aa.pdf; Supplier Part Number 1: VO1263AB-ND
footprint DIP8
pins: 1 control+, 2 control-, 3 control+, 4 control-, 5, 6, 7, 8

## VOM1271T
designator U?
OPTOISOLATOR 4.5KV PHVOLT 4-SOP; Manufacturer: Vishay Semiconductor Opto Division; Manufacturer Part Number: VOM1271T; Voltage - Isolation: 4500Vrms; Turn On / Turn Off Time (Typ): 53µs, 24µs; Input Type: DC; Output Type: Photovoltaic; Voltage - Forward (Vf) (Typ): 1.4V; Supplier 1: Digi-Key; RoHS: RoHS Compliant; Category: Isolators; Stock 1: 139; Pricing 1: 1=2.28, 10=2.047, 25=1.9312, 100=1.6454, 250=1.545, 500=1.35188, 1000=1.12013 (USD); Packaging: Cut Tape (CT); Part Status: Active; Current Transfer Ratio (Min): -; Current Transfer Ratio (Max): -; Rise / Fall Time (Typ): -; Voltage - Output (Max): -; Current - Output / Channel: -; Vce Saturation (Max): -; Operating Temperature: -40°C ~ 100°C; Mounting Type: Surface Mount; Package / Case: 4-SMD, Gull Wing; Supplier Device Package: 4-SOP (2.54mm); ComponentLink1URL: http://www.vishay.com/docs/83469/vom1271t.pdf; ComponentLink1Description: http://www.vishay.com/docs/83469/vom1271t.pdf; Supplier Part Number 1: VOM1271TCT-ND
footprint SOP4_N (SOP, 4-Leads, Body 4,09x3,81mm, Pitch 2,54mm, IPC Medium Density)
pins: 1 control+, 2 control-, 3 -, 4 +
text: TURN OFF

## xtal-32.768KHZ
designator X?
CRYSTAL 32.7680KHZ 6PF SMD; Manufacturer: Abracon LLC; Manufacturer Part Number: ABS25-32.768KHZ-6-T; Frequency Tolerance: ±20ppm; Operating Mode: Fundamental; Supplier 1: Digi-Key; RoHS: RoHS Compliant; Category: Crystals, Oscillators, Resonators; Stock 1: 188747; Pricing 1: 1=0.4, 10=0.33, 50=0.297, 100=0.264, 500=0.2508, 1000=0.2112 (USD); Packaging: Cut Tape (CT); Part Status: Active; Type: kHz Crystal (Tuning Fork); Frequency Stability: -; Load Capacitance: 6pF; Operating Temperature: -40°C ~ 85°C; Ratings: -; Mounting Type: Surface Mount; Package / Case: 4-SOJ, 5.50mm pitch; Size / Dimension: 0.315" L x 0.150" W (8.00mm x 3.80mm); Height - Seated (Max): 0.098" (2.50mm); ComponentLink1URL: https://abracon.com/Resonators/abs25.pdf; ComponentLink1Description: https://abracon.com/Resonators/abs25.pdf; Supplier Part Number 1: 535-10240-1-ND
footprint XTAL-SMD-4
pins: 1 OSC1, 2 OSC2

## XTAL_SMD
designator X?
Manufacturer: Abracon LLC; Manufacturer Part Number: ABLS-8.000MHZ-B4-T; Frequency Stability: ±50ppm; Frequency Tolerance: ±30ppm; Load Capacitance: 18pF; Operating Mode: Fundamental; Supplier 1: Digi-Key; RoHS: RoHS Compliant; Category: Crystals, Oscillators, Resonators; Stock 1: 7959; Pricing 1: 1=0.25, 10=0.209, 50=0.1882, 100=0.1672, 500=0.15884 (USD); Packaging: Cut Tape (CT); Part Status: Active; Type: MHz Crystal; Operating Temperature: -20°C ~ 70°C; Ratings: -; Mounting Type: Surface Mount; Package / Case: HC-49/US; Size / Dimension: 0.449" L x 0.185" W (11.40mm x 4.70mm); Height - Seated (Max): 0.165" (4.20mm); ComponentLink1URL: https://abracon.com/Resonators/abls.pdf; ComponentLink1Description: https://abracon.com/Resonators/abls.pdf; Supplier Part Number 1: 535-10212-1-ND
footprint XTAL_SMD-3 (Xtal smd for cilindrical crystal)
footprint XTAL_SMD
pins: 1 OSC1, 2 OSC2

## ZM5202AU-CME3R
designator U?
RF MODULE ZM5202; Manufacturer: Sigma Designs Inc; Frequency: 908MHz; Data Rate (Max): 100kbps; Modulation or Protocol: Z-Wave® / ITU-T G.9959; Power - Output: 1dBm; Sensitivity: -102dBm; Voltage - Supply: 2.3 V ~ 3.6 V; Current - Receiving: 30mA; Current - Transmitting: 36mA @ 0dBm; Data Interface: PCB, Surface Mount; Memory Size: 128kB Flash, 16kB RAM; Supplier 1: Digi-Key; Manufacturer Part Number: ZM5202AU-CME3R; RoHS: RoHS Compliant; Category: RF/IF and RFID; Stock 1: 73256; Pricing 1: 1=12.55, 25=11.5512, 100=10.0621, 500=6.5049 (USD); Packaging: Cut Tape (CT); Applications: General Purpose; Antenna Connector: PCB, Surface Mount; Operating Temperature: -10°C ~ 85°C; Package / Case: Module; ComponentLink1URL: http://z-wave.sigmadesigns.com/docs/brochures/ZM5202_br.pdf; ComponentLink1Description: http://z-wave.sigmadesigns.com/docs/brochures/ZM5202_br.pdf; Supplier Part Number 1: 703-1072-1-ND
footprint ZM5202
pins: 1 GND, 2 RESET_N, 3 P1.1/INT1, 4 P1.0/PWM/INT0, 5 P0.4/PWM_LED, 6 GND, 7 P2.3/MISO, 8 P2.4/SCK, 9 P2.2/MOSI, 10 P3.4/UART_RX/ADC0, 11 VCC, 12 GND, 13 P3.6/TRIAC/ADC2, 14 P3.7/ZEROX/ADC3, 15 P3.5/UART_TX/ADC1, 16 GND, 17 GND, 18 RF